# Altium footprint library PJ-069B-SMT.PcbLib: 1 footprints
Each footprint in its own frame and in the unit in brackets; x right, y up, seen from the top. Pads: shape width x height; smd on the part's side, far side on the other; paste and mask are expansions set on the pad; w line width, h text height; cw(c..) or ccw(c..) is an arc to the next point about the centre after c.
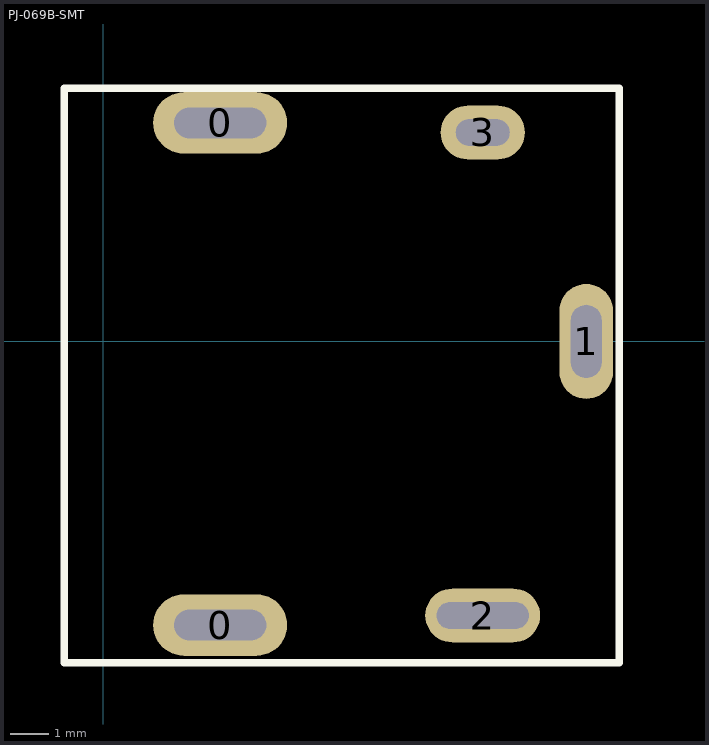
[diagram p0: the footprint, top view; thin cyan lines are the x and y axes]

## PJ-069B-SMT [mm]
pads (5):
  oval 3.5x1.6 hole 0.8 slot 2.4 at 0 deg: 0(3.05,-7.4) 0(3.05,5.7)
  oval 1.4x3 hole 0.8 slot 1.9 at 90 deg: 1(12.6,0)
  oval 3x1.4 hole 0.7 slot 2.4 at 0 deg: 2(9.9,-7.15)
  oval 2.2x1.4 hole 0.7 slot 1.4 at 0 deg: 3(9.9,5.45)
Top Overlay:
  lines w0.2: -1.016,-8.382 -1.016,6.604 4.318,6.604 13.462,6.604 13.462,-8.382 -1.016,-8.382
3D body: height 2.6, standoff -6.4, extent -1.133,-7.385 12.817,5.715